# Altium footprint library Magnetic Pad Lib.PcbLib: 4 footprints
Each footprint in its own frame and in the unit in brackets; x right, y up, seen from the top. Pads: shape width x height; smd on the part's side, far side on the other; paste and mask are expansions set on the pad; w line width, h text height; cw(c..) or ccw(c..) is an arc to the next point about the centre after c.
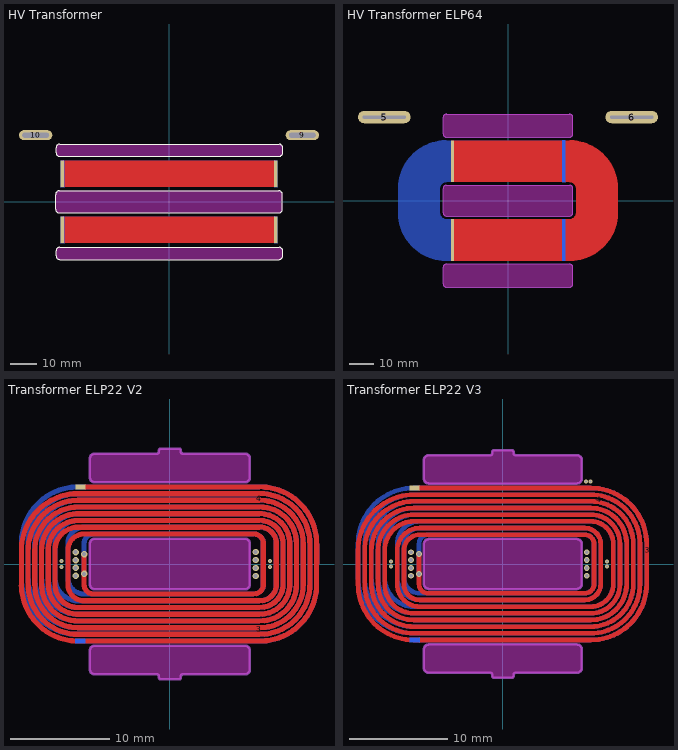
[diagram p0: the footprints below, top view; thin cyan lines are the x and y axes]

## HV Transformer [mil] "Ignition Arc HV Transformer"
pads (10):
  rect 50x400 smd: 1(-1600,-420) 2(1600,-420) 5(-1600,420) 6(1600,420)
  rect 50x400 smd far side: 3(1600,420) 4(-1600,420) 7(1600,-420) 8(-1600,-420)
  oval 500x150 hole 75 slot 400 at 0 deg: 9(2000,1000) 10(-2000,1000)
Top Layer:
  rectangle: -1600,220 1600,620
  rectangle: -1600,-620 1600,-220
Bottom Layer:
  rectangle: -1600,-620 1600,-220
  rectangle: -1600,220 1600,620
Top Overlay:
  lines w10: -1700,-110 ccw(c-1645,-110) -1645,-165 1645,-165 ccw(c1645,-110) 1700,-110 1700,110 ccw(c1645,110) 1645,165 -1645,165 ccw(c-1645,110) -1700,110 -1700,-110 ; -1695,-810 ccw(c-1640,-810) -1640,-865 1650,-865 ccw(c1650,-810) 1705,-810 1705,-737 ccw(c1650,-737) 1650,-682 -1640,-682 ccw(c-1640,-737) -1695,-737 -1695,-810 ; -1695,737 ccw(c-1640,737) -1640,682 1650,682 ccw(c1650,737) 1705,737 1705,810 ccw(c1650,810) 1650,865 -1640,865 ccw(c-1640,810) -1695,810 -1695,737
Keep-Out Layer:
  board cut-out: -1640,-865 -1645.42,-865 -1656.04,-862.89 -1666.05,-858.74 -1675.06,-852.72 -1682.72,-845.06 -1688.74,-836.05 -1692.89,-826.04 -1695,-815.42 -1695,-810 -1695,-737 -1695,-731.58 -1692.89,-720.96 -1688.74,-710.95 -1682.72,-701.94 -1675.06,-694.28 -1666.05,-688.26 -1656.04,-684.11 -1645.42,-682 -1640,-682 1650,-682 1655.42,-682 1666.04,-684.11 1676.05,-688.26 1685.06,-694.28 1692.72,-701.94 1698.74,-710.95 1702.89,-720.96 1705,-731.58 1705,-737 1705,-810 1705,-815.42 1702.89,-826.04 1698.74,-836.05 1692.72,-845.06 1685.06,-852.72 1676.05,-858.74 1666.04,-862.89 1655.42,-865 1650,-865
  board cut-out: -1700,-110 -1700,110 -1700,115.42 -1697.89,126.04 -1693.74,136.05 -1687.72,145.06 -1680.06,152.72 -1671.05,158.74 -1661.04,162.89 -1650.42,165 -1645,165 1645,165 1650.42,165 1661.04,162.89 1671.05,158.74 1680.06,152.72 1687.72,145.06 1693.74,136.05 1697.89,126.04 1700,115.42 1700,110 1700,-110 1700,-115.42 1697.89,-126.04 1693.74,-136.05 1687.72,-145.06 1680.06,-152.72 1671.05,-158.74 1661.04,-162.89 1650.42,-165 1645,-165 -1645,-165 -1650.42,-165 -1661.04,-162.89 -1671.05,-158.74 -1680.06,-152.72 -1687.72,-145.06 -1693.74,-136.05 -1697.89,-126.04 -1700,-115.42
  board cut-out: -1695,737 -1695,810 -1695,815.42 -1692.89,826.04 -1688.74,836.05 -1682.72,845.06 -1675.06,852.72 -1666.05,858.74 -1656.04,862.89 -1645.42,865 -1640,865 1650,865 1655.42,865 1666.04,862.89 1676.05,858.74 1685.06,852.72 1692.72,845.06 1698.74,836.05 1702.89,826.04 1705,815.42 1705,810 1705,737 1705,731.58 1702.89,720.96 1698.74,710.95 1692.72,701.94 1685.06,694.28 1676.05,688.26 1666.04,684.11 1655.42,682 1650,682 -1640,682 -1645.42,682 -1656.04,684.11 -1666.05,688.26 -1675.06,694.28 -1682.72,701.94 -1688.74,710.95 -1692.89,720.96 -1695,731.58
3D body: height 90.55, standoff 0, extent 1000,105 1000,105
3D body: height 90.55, standoff 0, extent -300,-195 -300,-195
3D body: height 90.55, standoff 0, extent -300,645 -300,645
3D body: height 90.55, standoff 0, extent -300,-195 -300,-195
3D body: height 748.03, standoff 0, extent 3010,660 3010,660
3D body "IgnitionTransformer.STEP": height 528.03, standoff -220, extent -2255.9,-850.4 2255.91,1015.74

## HV Transformer ELP64 [mil] "Ignition Arc HV Transformer ELP64-core"
pads (6):
  rect 50x675 smd: 1(-900,-637.5) 2(-900,637.5)
  rect 50x675 smd far side: 3(900,637.5) 4(900,-637.5)
  oval 850x200 hole 50 slot 700 at 0 deg: 5(-2000,1350) 6(2000,1350)
Top Layer:
  rectangle: -900,-975 1000,-300
  rectangle: -900,300 1000,975
  region: 1775,195 1775,-195 1775,-220.53 1771.66,-271.49 1764.99,-322.13 1755.03,-372.21 1741.81,-421.54 1725.4,-469.9 1705.86,-517.08 1683.27,-562.89 1657.73,-607.11 1629.36,-649.58 1598.27,-690.09 1564.6,-728.49 1528.49,-764.6 1490.09,-798.27 1449.58,-829.36 1407.11,-857.73 1362.89,-883.27 1317.08,-905.86 1269.9,-925.4 1221.54,-941.81 1172.21,-955.03 1122.13,-964.99 1071.49,-971.66 1020.53,-975 995,-975 995,-300 1001.87,-299.78 1015.48,-297.98 1028.75,-294.43 1041.44,-289.17 1053.33,-282.3 1064.23,-273.94 1073.94,-264.23 1082.3,-253.34 1089.17,-241.44 1094.43,-228.75 1097.98,-215.49 1099.77,-201.87 1100,-195 1100,195 1099.78,201.87 1097.98,215.48 1094.43,228.75 1089.17,241.44 1082.3,253.33 1073.94,264.23 1064.23,273.94 1053.34,282.3 1041.44,289.17 1028.75,294.43 1015.48,297.98 1001.87,299.77 995,300 995,975 1020.53,975 1071.49,971.66 1122.13,965 1172.21,955.03 1221.54,941.81 1269.9,925.4 1317.08,905.86 1362.89,883.27 1407.11,857.73 1449.58,829.36 1490.09,798.27 1528.49,764.6 1564.6,728.49 1598.27,690.09 1629.36,649.58 1657.73,607.11 1683.27,562.89 1705.86,517.08 1725.4,469.9 1741.81,421.54 1755.03,372.21 1764.99,322.13 1771.66,271.49 1775,220.53
Bottom Layer:
  rectangle: -1000,300 900,975
  rectangle: -1001.87,-975 900,-300
  region: -1775,-195 -1775,195 -1775,220.53 -1771.66,271.49 -1764.99,322.13 -1755.03,372.21 -1741.81,421.54 -1725.4,469.9 -1705.85,517.08 -1683.27,562.89 -1657.73,607.11 -1629.36,649.58 -1598.27,690.09 -1564.6,728.49 -1528.49,764.6 -1490.09,798.27 -1449.58,829.36 -1407.11,857.73 -1362.89,883.27 -1317.08,905.85 -1269.9,925.4 -1221.54,941.81 -1172.21,955.03 -1122.13,964.99 -1071.49,971.66 -1020.53,975 -995,975 -995,300 -1001.87,299.78 -1015.48,297.98 -1028.75,294.43 -1041.44,289.17 -1053.34,282.3 -1064.23,273.94 -1073.94,264.23 -1082.3,253.34 -1089.17,241.44 -1094.43,228.75 -1097.98,215.48 -1099.78,201.87 -1100,195 -1100,-195 -1099.78,-201.87 -1097.98,-215.48 -1094.43,-228.75 -1089.17,-241.44 -1082.3,-253.33 -1073.94,-264.23 -1064.23,-273.94 -1053.33,-282.3 -1041.44,-289.17 -1028.75,-294.43 -1015.48,-297.98 -1001.87,-299.78 -995,-300 -995,-975 -1020.53,-975 -1071.49,-971.66 -1122.13,-964.99 -1172.21,-955.03 -1221.54,-941.81 -1269.9,-925.4 -1317.08,-905.85 -1362.89,-883.27 -1407.11,-857.73 -1449.58,-829.36 -1490.09,-798.27 -1528.49,-764.6 -1564.6,-728.49 -1598.27,-690.09 -1629.36,-649.58 -1657.73,-607.11 -1683.27,-562.89 -1705.85,-517.08 -1725.4,-469.9 -1741.81,-421.54 -1755.03,-372.21 -1764.99,-322.13 -1771.66,-271.49 -1775,-220.53
Keep-Out Layer:
  board cut-out: -1050,1080 -1050,1345 -1050,1350.42 -1047.89,1361.04 -1043.74,1371.05 -1037.72,1380.06 -1030.06,1387.72 -1021.05,1393.74 -1011.04,1397.89 -1000.42,1400 -995,1400 995,1400 1000.42,1400 1011.04,1397.89 1021.05,1393.74 1030.06,1387.72 1037.72,1380.06 1043.74,1371.05 1047.89,1361.04 1050,1350.42 1050,1345 1050,1080 1050,1074.58 1047.89,1063.96 1043.74,1053.95 1037.72,1044.94 1030.06,1037.28 1021.05,1031.26 1011.04,1027.11 1000.42,1025 995,1025 -995,1025 -1000.42,1025 -1011.04,1027.11 -1021.05,1031.26 -1030.06,1037.28 -1037.72,1044.94 -1043.74,1053.95 -1047.89,1063.96 -1050,1074.58
  board cut-out: -1050,-1345 -1050,-1080 -1050,-1074.58 -1047.89,-1063.96 -1043.74,-1053.95 -1037.72,-1044.94 -1030.06,-1037.28 -1021.05,-1031.26 -1011.04,-1027.11 -1000.42,-1025 -995,-1025 995,-1025 1000.42,-1025 1011.04,-1027.11 1021.05,-1031.26 1030.06,-1037.28 1037.72,-1044.94 1043.74,-1053.95 1047.89,-1063.96 1050,-1074.58 1050,-1080 1050,-1345 1050,-1350.42 1047.89,-1361.04 1043.74,-1371.05 1037.72,-1380.06 1030.06,-1387.72 1021.05,-1393.74 1011.04,-1397.89 1000.42,-1400 995,-1400 -995,-1400 -1000.42,-1400 -1011.04,-1397.89 -1021.05,-1393.74 -1030.06,-1387.72 -1037.72,-1380.06 -1043.74,-1371.05 -1047.89,-1361.04 -1050,-1350.42
  board cut-out: -1050,-195 -1050,195 -1050,200.42 -1047.89,211.04 -1043.74,221.05 -1037.72,230.06 -1030.06,237.72 -1021.05,243.74 -1011.04,247.89 -1000.42,250 -995,250 995,250 1000.42,250 1011.04,247.89 1021.05,243.74 1030.06,237.72 1037.72,230.06 1043.74,221.05 1047.89,211.04 1050,200.42 1050,195 1050,-195 1050,-200.42 1047.89,-211.04 1043.74,-221.05 1037.72,-230.06 1030.06,-237.72 1021.05,-243.74 1011.04,-247.89 1000.42,-250 995,-250 -995,-250 -1000.42,-250 -1011.04,-247.89 -1021.05,-243.74 -1030.06,-237.72 -1037.72,-230.06 -1043.74,-221.05 -1047.89,-211.04 -1050,-200.42
Board (Mech15):
  lines w10: -1050,-1345 ccw(c-995,-1345) -995,-1400 995,-1400 ccw(c995,-1345) 1050,-1345 1050,-1080 ccw(c995,-1080) 995,-1025 -995,-1025 ccw(c-995,-1080) -1050,-1080 -1050,-1345 ; -1050,-195 ccw(c-995,-195) -995,-250 995,-250 ccw(c995,-195) 1050,-195 1050,195 ccw(c995,195) 995,250 -995,250 ccw(c-995,195) -1050,195 -1050,-195 ; -1050,1080 ccw(c-995,1080) -995,1025 995,1025 ccw(c995,1080) 1050,1080 1050,1345 ccw(c995,1345) 995,1400 -995,1400 ccw(c-995,1345) -1050,1345 -1050,1080
3D body: height 748.03, standoff 0, extent 3010,660 3010,660
3D body: height 90.55, standoff 0, extent -300,645 -300,645
3D body: height 90.55, standoff 0, extent -300,-195 -300,-195
3D body: height 90.55, standoff 0, extent -300,-195 -300,-195
3D body "ELP64 Ignition.STEP": height 528.15, standoff -275, extent -2335.07,-1259.85 2334.61,1359.84

## Transformer ELP22 V2 [mm] "Planar Transformer ELP22x6x16-core"
pads (6):
  rect 1x0.48 smd: 1(-9,7.75)
  rect 1x0.48 smd far side: 2(-9,-7.75)
  rect 1x2.1 on Mid1: 3(9,-6.55)
  rect 1x2.1 on Mid2: 4(9,6.55)
  rect 1x0.2 on Mid1: 5(9,-7.9)
  rect 1x0.2 on Mid2: 6(9,7.9)
via -9.475,0.4 diameter 0.65 hole 0.4
via -8.625,-1 diameter 0.65 hole 0.4
via 8.625,1.2 diameter 0.635 hole 0.4
via 8.625,0.4 diameter 0.635 hole 0.4
via 8.625,-0.4 diameter 0.635 hole 0.4
via 8.625,-1.2 diameter 0.635 hole 0.4
via -9.475,1.2 diameter 0.65 hole 0.4
via -9.475,-0.4 diameter 0.65 hole 0.4
via -9.475,-1.2 diameter 0.65 hole 0.4
via 10.05,0.3 diameter 0.4 hole 0.2
via -10.9,0.3 diameter 0.4 hole 0.2
via 10.05,-0.3 diameter 0.4 hole 0.2
via -10.9,-0.3 diameter 0.4 hole 0.2
via -8.625,1 diameter 0.65 hole 0.4
Top Layer:
  drawing of 2 lines, arcs and shapes, not listed
Mid-Layer 1:
  drawing of 31 lines, arcs and shapes, not listed
Mid-Layer 2:
  region: 8.85,8 7.35,8 7.35,7.8 8.85,7.8
  region: 8.85,7.6 7.35,7.6 7.35,5.5 8.85,5.5
  region: 334 vertices and 0 holes, not listed, extent -14.35,-8 13.5,8
  region: 247 vertices and 0 holes, not listed, extent -13.95,-7.6 13.1,7.6
Bottom Layer:
  drawing of 2 lines, arcs and shapes, not listed
Keep-Out Layer:
  board cut-out: -7.55,-11.1 -7.649,-11.1 -7.833,-11.024 -7.974,-10.883 -8.05,-10.7 -8.05,-10.6 -8.05,-8.7 -8.05,-8.601 -7.974,-8.417 -7.833,-8.276 -7.65,-8.2 -7.55,-8.2 7.55,-8.2 7.649,-8.2 7.833,-8.276 7.974,-8.417 8.05,-8.601 8.05,-8.7 8.05,-10.6 8.05,-10.699 7.974,-10.883 7.833,-11.024 7.649,-11.1 7.55,-11.1 1.3,-11.1 1.261,-11.104 1.189,-11.134 1.134,-11.189 1.104,-11.261 1.1,-11.3 1.1,-11.4 1.1,-11.44 1.07,-11.513 1.013,-11.57 0.94,-11.6 0.9,-11.6 -0.9,-11.6 -0.94,-11.6 -1.013,-11.57 -1.07,-11.513 -1.1,-11.44 -1.1,-11.4 -1.1,-11.3 -1.104,-11.261 -1.134,-11.189 -1.189,-11.134 -1.261,-11.104 -1.3,-11.1
  board cut-out: -7.55,8.2 -7.649,8.2 -7.833,8.276 -7.974,8.417 -8.05,8.6 -8.05,8.7 -8.05,10.6 -8.05,10.699 -7.974,10.883 -7.833,11.024 -7.65,11.1 -7.55,11.1 -1.3,11.1 -1.261,11.104 -1.189,11.134 -1.134,11.189 -1.104,11.261 -1.1,11.3 -1.1,11.4 -1.1,11.44 -1.07,11.513 -1.013,11.57 -0.94,11.6 -0.9,11.6 0.9,11.6 0.94,11.6 1.013,11.57 1.07,11.513 1.1,11.44 1.1,11.4 1.1,11.3 1.104,11.261 1.134,11.189 1.189,11.134 1.261,11.104 1.3,11.1 7.55,11.1 7.649,11.1 7.833,11.024 7.974,10.883 8.05,10.699 8.05,10.6 8.05,8.7 8.05,8.601 7.974,8.417 7.833,8.276 7.649,8.2 7.55,8.2
  board cut-out: -7.55,-2.55 -7.649,-2.55 -7.833,-2.474 -7.974,-2.333 -8.05,-2.149 -8.05,-2.05 -8.05,2.05 -8.05,2.149 -7.974,2.333 -7.833,2.474 -7.649,2.55 -7.55,2.55 7.548,2.55 7.648,2.55 7.832,2.475 7.974,2.334 8.05,2.15 8.05,2.05 8.05,-2.05 8.05,-2.15 7.974,-2.334 7.834,-2.474 7.65,-2.55 7.55,-2.55
Board (Mech15):
  lines w0.254: -8.05,-10.6 ccw(c-7.55,-10.6) -7.55,-11.1 -1.3,-11.1 cw(c-1.3,-11.3) -1.1,-11.3 -1.1,-11.4 ccw(c-0.9,-11.4) -0.9,-11.6 0.9,-11.6 ccw(c0.9,-11.4) 1.1,-11.4 1.1,-11.3 cw(c1.3,-11.3) 1.3,-11.1 7.55,-11.1 ccw(c7.55,-10.6) 8.05,-10.6 8.05,-8.7 ccw(c7.55,-8.7) 7.55,-8.2 -7.55,-8.2 ccw(c-7.55,-8.7) -8.05,-8.7 -8.05,-10.6 ; -8.05,-2.05 ccw(c-7.55,-2.05) -7.55,-2.55 7.55,-2.55 ccw(c7.55,-2.05) 8.05,-2.05 8.05,2.05 ccw(c7.55,2.05) 7.55,2.55 -7.55,2.55 ccw(c-7.55,2.05) -8.05,2.05 -8.05,-2.05 ; -8.05,8.7 ccw(c-7.55,8.7) -7.55,8.2 7.55,8.2 ccw(c7.55,8.7) 8.05,8.7 8.05,10.6 ccw(c7.55,10.6) 7.55,11.1 1.3,11.1 cw(c1.3,11.3) 1.1,11.3 1.1,11.4 ccw(c0.9,11.4) 0.9,11.6 -0.9,11.6 ccw(c-0.9,11.4) -1.1,11.4 -1.1,11.3 cw(c-1.3,11.3) -1.3,11.1 -7.55,11.1 ccw(c-7.55,10.6) -8.05,10.6 -8.05,8.7
3D body "ELP22x6x16.STEP": height 3.29, standoff -4.91, extent -7.9,-10.9 7.9,10.9

## Transformer ELP22 V3 [mm] "Planar Transformer ELP22x6x16-core"
pads (6):
  rect 1x0.48 smd mask+0.102: 1(-9,7.75)
  rect 1x0.48 smd far side mask+0.102: 2(-9,-7.75)
  rect 2.1x1 on Mid1: 3(14.76,1.425)
  rect 1x2.1 on Mid2: 4(9.8,6.55)
  rect 1x0.2 on Mid1: 5(9.8,-7.9)
  rect 0.2x1 on Mid1: 6(13.832,3.11)
via 8.95,8.39 diameter 0.4 hole 0.2
via 8.45,8.39 diameter 0.4 hole 0.2
via 10.61,-0.25 diameter 0.4 hole 0.2
via -11.41,-0.25 diameter 0.4 hole 0.2
via -9.35,0.4 diameter 0.6 hole 0.4
via -8.55,-1 diameter 0.6 hole 0.4
via -8.55,1 diameter 0.6 hole 0.4
via 8.55,1.2 diameter 0.6 hole 0.4
via 8.55,0.4 diameter 0.6 hole 0.4
via 8.55,-0.4 diameter 0.6 hole 0.4
via 8.55,-1.2 diameter 0.6 hole 0.4
via -9.35,1.2 diameter 0.6 hole 0.4
via -9.35,-0.4 diameter 0.6 hole 0.4
via -9.35,-1.2 diameter 0.6 hole 0.4
via 10.61,0.25 diameter 0.4 hole 0.2
via -11.41,0.25 diameter 0.4 hole 0.2
Top Layer:
  rectangle: -8.6,7.51 -7.6,7.99
  lines w0.48: -8.55,1 -8.55,-2.05 ccw(c-7.61,-2.05) -7.61,-2.99 8.35,-2.99 ccw(c8.35,-2.05) 9.29,-2.05 9.29,2.05 ccw(c8.35,2.05) 8.35,2.99 -8.47,2.99 ccw(c-8.47,1.37) -10.09,1.37 -10.09,-2.05 ccw(c-8.47,-2.05) -8.47,-3.67 8.35,-3.67 ccw(c8.35,-2.05) 9.97,-2.05 9.97,2.05 ccw(c8.35,2.05) 8.35,3.67 -8.47,3.67 ccw(c-8.47,1.37) -10.77,1.37 -10.77,-2.05 ccw(c-8.47,-2.05) -8.47,-4.35 8.95,-4.35 ccw(c8.95,-2.05) 11.25,-2.05 11.25,2.05 ccw(c8.95,2.05) 8.95,4.35 -9.07,4.35 ccw(c-9.07,1.37) -12.05,1.37 -12.05,-2.05 ccw(c-9.07,-2.05) -9.07,-5.03 8.95,-5.03 ccw(c8.95,-2.05) 11.93,-2.05 11.93,2.05 ccw(c8.95,2.05) 8.95,5.03 -9.07,5.03 ccw(c-9.07,1.37) -12.73,1.37 -12.73,-2.05 ccw(c-9.07,-2.05) -9.07,-5.71 8.95,-5.71 ccw(c8.95,-2.05) 12.61,-2.05 12.61,2.05 ccw(c8.95,2.05) 8.95,5.71 -9.07,5.71 ccw(c-9.07,1.37) -13.41,1.37 -13.41,-2.05 ccw(c-9.07,-2.05) -9.07,-6.39 8.95,-6.39 ccw(c8.95,-2.05) 13.29,-2.05 13.29,2.05 ccw(c8.95,2.05) 8.95,6.39 -9.07,6.39 ccw(c-9.07,1.37) -14.09,1.37 -14.09,-2.05 ccw(c-9.07,-2.05) -9.07,-7.07 8.95,-7.07 ccw(c8.95,-2.05) 13.97,-2.05 13.97,2.05 ccw(c8.95,2.05) 8.95,7.07 -9.07,7.07 ccw(c-9.07,1.37) -14.77,1.37 -14.77,-2.05 ccw(c-9.07,-2.05) -9.07,-7.75 8.95,-7.75 ccw(c8.95,-2.05) 14.65,-2.05 14.65,2.05 ccw(c8.95,2.05) 8.95,7.75 -8,7.75
Mid-Layer 1:
  rectangle: 8,-8 9.5,-7.8
  region: 15.81,-0.35 15.81,1.15 13.71,1.15 13.71,-0.35
  region: -9.05,2.05 -11.15,2.05 -11.15,0.825 -11,0.4 -11,-0.4 -11.15,-0.825 -11.15,-2.05 -9.05,-2.05
  region: 14.325,-7.25
  region: 8.25,2.1 10.35,2.1 10.35,0.825 10.2,0.4 10.2,-0.85 10.2,-0.879 10.198,-0.936 10.194,-0.993 10.189,-1.05 10.181,-1.107 10.172,-1.163 10.161,-1.219 10.148,-1.275 10.133,-1.331 10.116,-1.385 10.098,-1.44 10.078,-1.493 10.056,-1.546 10.032,-1.598 10.007,-1.65 9.98,-1.7 9.951,-1.75 9.921,-1.798 9.889,-1.846 9.856,-1.893 9.821,-1.938 9.785,-1.982 9.747,-2.025 9.708,-2.067 9.667,-2.108 9.625,-2.147 9.582,-2.185 9.538,-2.221 9.493,-2.256 9.446,-2.289 9.398,-2.321 9.35,-2.351 9.3,-2.38 9.25,-2.407 9.198,-2.432 9.146,-2.456 9.093,-2.478 9.04,-2.498 8.985,-2.516 8.931,-2.533 8.875,-2.548 8.82,-2.561 8.763,-2.572 8.707,-2.581 8.65,-2.589 8.593,-2.594 8.536,-2.598 8.479,-2.6 8.45,-2.6 8.44,-2.6 8.421,-2.598 8.401,-2.594 8.383,-2.589 8.364,-2.581 8.347,-2.572 8.331,-2.561 8.316,-2.548 8.302,-2.534 8.289,-2.519 8.278,-2.503 8.269,-2.486 8.262,-2.467 8.256,-2.449 8.252,-2.429 8.25,-2.41 8.25,-2.4
  region: 8.325,8.175 9.2,8.175 9.2,8.6 9.2,8.61 9.196,8.629 9.189,8.648 9.178,8.664 9.164,8.678 9.147,8.689 9.129,8.696 9.11,8.7 9.1,8.7 8.35,8.7 8.34,8.7 8.321,8.696 8.303,8.689 8.286,8.678 8.272,8.664 8.261,8.647 8.254,8.629 8.25,8.61 8.25,8.6 8.25,8.25 8.25,8.243 8.253,8.228 8.259,8.214 8.267,8.202 8.277,8.192 8.289,8.184 8.303,8.178 8.318,8.175
  lines w0.2: 8,-7.9 -8.36,-7.9 cw(c-8.36,-2.05) -14.21,-2.05 -14.21,2.05 cw(c-8.36,2.05) -8.36,7.9 7.56,7.9 cw(c7.56,2.05) 13.41,2.05 13.41,-0.35 cw(c8.56,-0.35) 8.56,-5.2 -8.3,-5.2 cw(c-8.3,-2.05) -11.45,-2.05 -11.45,-0.8 -11.41,-0.25 -11.41,0.25 -11.45,0.8 -11.45,2.05 cw(c-8.3,2.05) -8.3,5.2 7.55,5.2 cw(c7.55,2.1) 10.65,2.1 10.65,0.8 10.61,0.25 10.61,-0.25 ; 8.35,8.25 cw(c7.56,2.05) 13.77,2.752
  lines w2.1: -10.1,-2.05 ccw(c-8.3,-2.05) -8.3,-3.85 8.56,-3.85 ccw(c8.56,-0.35) 12.06,-0.35 12.06,2.05 ccw(c7.56,2.05) 7.56,6.55 -8.36,6.55 ccw(c-8.36,2.05) -12.86,2.05 -12.86,-2.05 ccw(c-8.36,-2.05) -8.36,-6.55 8.56,-6.55 ccw(c8.56,-0.35) 14.76,-0.35 ; -10.1,2.05 cw(c-8.3,2.05) -8.3,3.85 7.55,3.85 ; 7.55,3.85 cw(c7.55,2.1) 9.3,2.1
Mid-Layer 2:
  region: 9.5,7.6 8,7.6 8,5.5 9.5,5.5
  region: 8.25,-2.1 10.35,-2.1 10.35,-0.825 10.2,-0.4 10.2,0.85 10.2,0.879 10.198,0.936 10.194,0.993 10.189,1.05 10.181,1.107 10.172,1.163 10.161,1.219 10.148,1.275 10.133,1.331 10.116,1.385 10.098,1.44 10.078,1.493 10.056,1.546 10.032,1.598 10.007,1.65 9.98,1.7 9.951,1.75 9.921,1.798 9.889,1.846 9.856,1.893 9.821,1.938 9.785,1.982 9.747,2.025 9.708,2.067 9.667,2.108 9.625,2.147 9.582,2.185 9.538,2.221 9.493,2.256 9.446,2.289 9.398,2.321 9.35,2.351 9.3,2.38 9.25,2.407 9.198,2.432 9.146,2.456 9.093,2.478 9.04,2.498 8.985,2.516 8.931,2.533 8.875,2.548 8.82,2.561 8.763,2.572 8.707,2.581 8.65,2.589 8.593,2.594 8.536,2.598 8.479,2.6 8.45,2.6 8.44,2.6 8.421,2.598 8.401,2.594 8.383,2.589 8.364,2.581 8.347,2.572 8.331,2.561 8.316,2.548 8.302,2.534 8.289,2.519 8.278,2.503 8.269,2.486 8.261,2.467 8.256,2.449 8.252,2.429 8.25,2.41 8.25,2.4
  region: -9.05,2.05 -11.15,2.05 -11.15,0.825 -11,0.4 -11,-0.4 -11.15,-0.825 -11.15,-2.05 -9.05,-2.05
  region: 7.55,7.8 9.1,7.8 9.107,7.8 9.12,7.802 9.132,7.805 9.144,7.81 9.156,7.817 9.166,7.825 9.175,7.834 9.183,7.844 9.19,7.856 9.195,7.868 9.198,7.88 9.2,7.893 9.2,7.9 9.2,8.6 9.2,8.607 9.198,8.62 9.195,8.632 9.19,8.644 9.183,8.656 9.175,8.666 9.166,8.675 9.156,8.683 9.144,8.69 9.132,8.695 9.119,8.698 9.106,8.7 9.1,8.7 8.375,8.7 8.368,8.7 8.356,8.698 8.343,8.695 8.331,8.691 8.32,8.685 8.309,8.678 8.299,8.669 8.29,8.66 8.283,8.649 8.277,8.638 8.272,8.626 8.268,8.614 8.267,8.607 8.264,8.589 8.257,8.553 8.248,8.518 8.237,8.483 8.224,8.448 8.21,8.415 8.194,8.382 8.176,8.35 8.156,8.319 8.135,8.289 8.113,8.26 8.089,8.232 8.063,8.206 8.037,8.181 8.009,8.157 7.98,8.135 7.949,8.114 7.918,8.095 7.886,8.077 7.853,8.062 7.819,8.048 7.784,8.035 7.749,8.025 7.714,8.016 7.678,8.009 7.641,8.004 7.605,8.001 7.568,8 7.55,8
  lines w0.2: -11.45,2.049 -11.45,0.8 -11.41,0.25 -11.41,-0.25 -11.45,-0.8 -11.45,-2.05 ccw(c-8.3,-2.05) -8.3,-5.2 7.55,-5.2 ccw(c7.55,-2.1) 10.65,-2.1 10.65,-0.8 10.61,-0.25 10.61,0.25 ; -11.45,2.05 cw(c-8.3,2.05) -8.3,5.2 8.56,5.2 cw(c8.56,0.35) 13.41,0.35 13.41,-2.05 cw(c7.56,-2.05) 7.56,-7.9 -8.36,-7.9 cw(c-8.36,-2.05) -14.21,-2.05 -14.21,2.05 cw(c-8.36,2.05) -8.36,7.9 7.55,7.9
  lines w2.1: -10.1,-2.05 ccw(c-8.3,-2.05) -8.3,-3.85 7.55,-3.85 ccw(c7.55,-2.1) 9.3,-2.1 ; -10.1,2.05 cw(c-8.3,2.05) -8.3,3.85 8.56,3.85 cw(c8.56,0.35) 12.06,0.35 12.06,-2.05 cw(c7.56,-2.05) 7.56,-6.55 -8.36,-6.55 cw(c-8.36,-2.05) -12.86,-2.05 -12.86,2.05 cw(c-8.36,2.05) -8.36,6.55 8,6.55
Bottom Layer:
  rectangle: -8.6,-7.99 -7.6,-7.51
  lines w0.48: -8.55,-1 -8.55,2.05 cw(c-7.61,2.05) -7.61,2.99 8.35,2.99 cw(c8.35,2.05) 9.29,2.05 9.29,-2.05 cw(c8.35,-2.05) 8.35,-2.99 -8.47,-2.99 cw(c-8.47,-1.37) -10.09,-1.37 -10.09,2.05 cw(c-8.47,2.05) -8.47,3.67 8.35,3.67 cw(c8.35,2.05) 9.97,2.05 9.97,-2.05 cw(c8.35,-2.05) 8.35,-3.67 -8.47,-3.67 cw(c-8.47,-1.37) -10.77,-1.37 -10.77,2.05 cw(c-8.47,2.05) -8.47,4.35 8.95,4.35 cw(c8.95,2.05) 11.25,2.05 11.25,-2.05 cw(c8.95,-2.05) 8.95,-4.35 -9.07,-4.35 cw(c-9.07,-1.37) -12.05,-1.37 -12.05,2.05 cw(c-9.07,2.05) -9.07,5.03 8.95,5.03 cw(c8.95,2.05) 11.93,2.05 11.93,-2.05 cw(c8.95,-2.05) 8.95,-5.03 -9.07,-5.03 cw(c-9.07,-1.37) -12.73,-1.37 -12.73,2.05 cw(c-9.07,2.05) -9.07,5.71 8.95,5.71 cw(c8.95,2.05) 12.61,2.05 12.61,-2.05 cw(c8.95,-2.05) 8.95,-5.71 -9.07,-5.71 cw(c-9.07,-1.37) -13.41,-1.37 -13.41,2.05 cw(c-9.07,2.05) -9.07,6.39 8.95,6.39 cw(c8.95,2.05) 13.29,2.05 13.29,-2.05 cw(c8.95,-2.05) 8.95,-6.39 -9.07,-6.39 cw(c-9.07,-1.37) -14.09,-1.37 -14.09,2.05 cw(c-9.07,2.05) -9.07,7.07 8.95,7.07 cw(c8.95,2.05) 13.97,2.05 13.97,-2.05 cw(c8.95,-2.05) 8.95,-7.07 -9.07,-7.07 cw(c-9.07,-1.37) -14.77,-1.37 -14.77,2.05 cw(c-9.07,2.05) -9.07,7.75 8.95,7.75 cw(c8.95,2.05) 14.65,2.05 14.65,-2.05 cw(c8.95,-2.05) 8.95,-7.75 -8,-7.75
Keep-Out Layer:
  drawing of 3 lines, arcs and shapes, not listed
Board (Mech15):
  lines w0.254: -8.05,-10.6 ccw(c-7.55,-10.6) -7.55,-11.1 -1.3,-11.1 cw(c-1.3,-11.3) -1.1,-11.3 -1.1,-11.4 ccw(c-0.9,-11.4) -0.9,-11.6 0.9,-11.6 ccw(c0.9,-11.4) 1.1,-11.4 1.1,-11.3 cw(c1.3,-11.3) 1.3,-11.1 7.55,-11.1 ccw(c7.55,-10.6) 8.05,-10.6 8.05,-8.7 ccw(c7.55,-8.7) 7.55,-8.2 -7.55,-8.2 ccw(c-7.55,-8.7) -8.05,-8.7 -8.05,-10.6 ; -8.05,-2.05 ccw(c-7.55,-2.05) -7.55,-2.55 7.55,-2.55 ccw(c7.55,-2.05) 8.05,-2.05 8.05,2.05 ccw(c7.55,2.05) 7.55,2.55 -7.55,2.55 ccw(c-7.55,2.05) -8.05,2.05 -8.05,-2.05 ; -8.05,8.7 ccw(c-7.55,8.7) -7.55,8.2 7.55,8.2 ccw(c7.55,8.7) 8.05,8.7 8.05,10.6 ccw(c7.55,10.6) 7.55,11.1 1.3,11.1 cw(c1.3,11.3) 1.1,11.3 1.1,11.4 ccw(c0.9,11.4) 0.9,11.6 -0.9,11.6 ccw(c-0.9,11.4) -1.1,11.4 -1.1,11.3 cw(c-1.3,11.3) -1.3,11.1 -7.55,11.1 ccw(c-7.55,10.6) -8.05,10.6 -8.05,8.7
3D body "ELP22x6x16.STEP": height 3.29, standoff -4.91, extent -7.9,-10.9 7.9,10.9